# EAGLE library part TMP100NA/3K (library TMP100NA_3K)
Check prices <https://pricing.snapeda.com/parts/TMP100NA/3K/Texas%20Instruments/view-part?ref=eda>
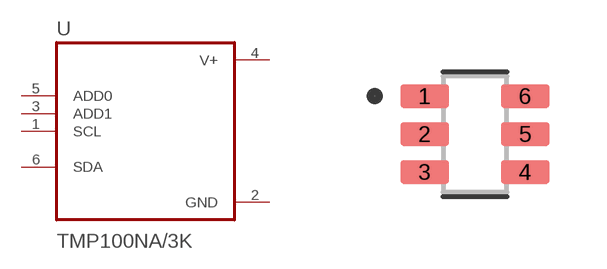
[diagram p0: symbol with the pads of SOT95P280X145-6N; footprint SOT95P280X145-6N]

Designator prefix U

## TMP100NA/3K (Availability: Good; Description: Temperature Sensor with I2C/SMBus Interface in SOT-23 6-SOT-23 -55 to 125; MF: Texas Instruments; MP: TMP100NA/3K; Package: SOT-23-6 Texas Instruments; Price: None; Purchase-URL: https://pricing.snapeda.com/search/part/TMP100NA/3K/?ref=eda)  [SOT95P280X145-6N]
1  SCL  in
2  GND  pwr
3  ADD1  in
4  V+  pwr
5  ADD0  in
6  SDA

## Footprint SOT95P280X145-6N (pad centres in mm)
smd 1.21 x 0.58: 1 -1.255,0.95; 2 -1.255,0; 3 -1.255,-0.95; 4 1.255,-0.95; 5 1.255,0; 6 1.255,0.95